# EAGLE library part MC32PF3000A1EP (library vikc-ic)
PMIC for i.MX7 Series by NXP
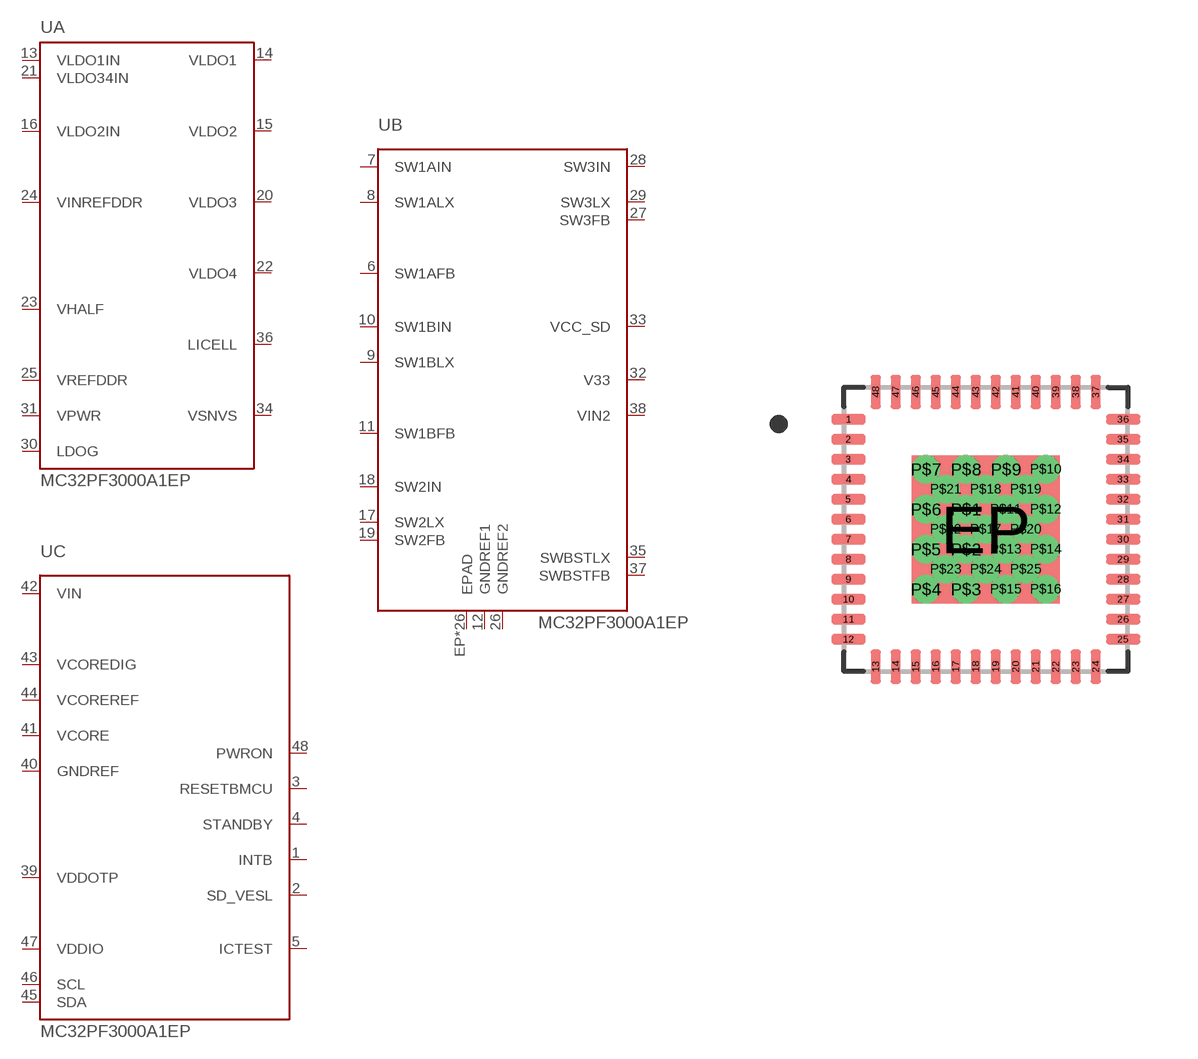
[diagram p2: symbol with the pads of QFN0.57X7X0.9-49; footprint QFN0.57X7X0.9-49]

Designator prefix U; gates A=PF3000A B=PF3000B C=PF3000C

## MC32PF3000A1EP  [QFN0.57X7X0.9-49]
1  C:INTB  out
2  C:SD_VESL
3  C:RESETBMCU  out
4  C:STANDBY  in
5  C:ICTEST  in
6  B:SW1AFB  in
7  B:SW1AIN  in
8  B:SW1ALX  out
9  B:SW1BLX  out
10  B:SW1BIN  in
11  B:SW1BFB  in
12  B:GNDREF1  pwr
13  A:VLDO1IN  in
14  A:VLDO1  out
15  A:VLDO2  out
16  A:VLDO2IN  in
17  B:SW2LX  out
18  B:SW2IN  in
19  B:SW2FB  in
20  A:VLDO3  out
21  A:VLDO34IN  in
22  A:VLDO4  out
23  A:VHALF  in
24  A:VINREFDDR  in
25  A:VREFDDR  out
26  B:GNDREF2  pwr
27  B:SW3FB  in
28  B:SW3IN  in
29  B:SW3LX  out
30  A:LDOG  out
31  A:VPWR  in
32  B:V33  out
33  B:VCC_SD  out
34  A:VSNVS  out
35  B:SWBSTLX
36  A:LICELL
37  B:SWBSTFB  in
38  B:VIN2  in
39  C:VDDOTP  in
40  C:GNDREF  pwr
41  C:VCORE  out
42  C:VIN  pwr
43  C:VCOREDIG  out
44  C:VCOREREF  out
45  C:SDA
46  C:SCL  in
47  C:VDDIO  in
48  C:PWRON  in
EP  B:EPAD  pwr
P$1  B:EPAD  pwr
P$2  B:EPAD  pwr
P$3  B:EPAD  pwr
P$4  B:EPAD  pwr
P$5  B:EPAD  pwr
P$6  B:EPAD  pwr
P$7  B:EPAD  pwr
P$8  B:EPAD  pwr
P$9  B:EPAD  pwr
P$10  B:EPAD  pwr
P$11  B:EPAD  pwr
P$12  B:EPAD  pwr
P$13  B:EPAD  pwr
P$14  B:EPAD  pwr
P$15  B:EPAD  pwr
P$16  B:EPAD  pwr
P$17  B:EPAD  pwr
P$18  B:EPAD  pwr
P$19  B:EPAD  pwr
P$20  B:EPAD  pwr
P$21  B:EPAD  pwr
P$22  B:EPAD  pwr
P$23  B:EPAD  pwr
P$24  B:EPAD  pwr
P$25  B:EPAD  pwr

## Footprint QFN0.57X7X0.9-49 (pad centres in mm)
smd 0.86 x 0.26: 1 -3.435,2.75; 2 -3.435,2.25; 3 -3.435,1.75; 4 -3.435,1.25; 5 -3.435,0.75; 6 -3.435,0.25; 7 -3.435,-0.25; 8 -3.435,-0.75; 9 -3.435,-1.25; 10 -3.435,-1.75; 11 -3.435,-2.25; 12 -3.435,-2.75; 25 3.435,-2.75; 26 3.435,-2.25; 27 3.435,-1.75; 28 3.435,-1.25; 29 3.435,-0.75; 30 3.435,-0.25; 31 3.435,0.25; 32 3.435,0.75; 33 3.435,1.25; 34 3.435,1.75; 35 3.435,2.25; 36 3.435,2.75
smd 0.26 x 0.86: 13 -2.75,-3.435; 14 -2.25,-3.435; 15 -1.75,-3.435; 16 -1.25,-3.435; 17 -0.75,-3.435; 18 -0.25,-3.435; 19 0.25,-3.435; 20 0.75,-3.435; 21 1.25,-3.435; 22 1.75,-3.435; 23 2.25,-3.435; 24 2.75,-3.435; 37 2.75,3.435; 38 2.25,3.435; 39 1.75,3.435; 40 1.25,3.435; 41 0.75,3.435; 42 0.25,3.435; 43 -0.25,3.435; 44 -0.75,3.435; 45 -1.25,3.435; 46 -1.75,3.435; 47 -2.25,3.435; 48 -2.75,3.435
smd 3.7 x 3.7: EP 0,0
drill 0.2 pad 0.406: P$1 -0.5,0.5; P$2 -0.5,-0.5; P$3 -0.5,-1.5; P$4 -1.5,-1.5; P$5 -1.5,-0.5; P$6 -1.5,0.5; P$7 -1.5,1.5; P$8 -0.5,1.5; P$9 0.5,1.5; P$10 1.5,1.5; P$11 0.5,0.5; P$12 1.5,0.5; P$13 0.5,-0.5; P$14 1.5,-0.5; P$15 0.5,-1.5; P$16 1.5,-1.5; P$17 0,0; P$18 0,1; P$19 1,1; P$20 1,0; P$21 -1,1; P$22 -1,0; P$23 -1,-1; P$24 0,-1; P$25 1,-1